# Altium schematic symbol library PT2399.SchLib: 1 symbol
Pins are listed as number, name and electrical type; pins without a type are passive.

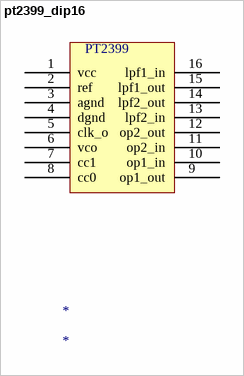
[diagram p0: symbol pt2399_dip16]

## pt2399_dip16
designator *
footprint dip16
pins: 1 vcc, 2 ref, 3 agnd, 4 dgnd, 5 clk_o, 6 vco, 7 cc1, 8 cc0, 9 op1_out, 10 op1_in, 11 op2_in, 12 op2_out, 13 lpf2_in, 14 lpf2_out, 15 lpf1_out, 16 lpf1_in
text: PT2399